# EAGLE library part ESP32-S2-MINI-2-N4R2 (library ESP32-S2-MINI-2-N4R2)
WiFi Modules - 802.11 SMD module, ESP32-S2FN4R2 ECO1 with 4 MB flash, 2 MB PSRAM , PCB antenna Source: Datasheet <https://www.espressif.com/sites/default/files/documentation/esp32-s2-mini-2_esp32-s2-mini-2u_datasheet_en.pdf>
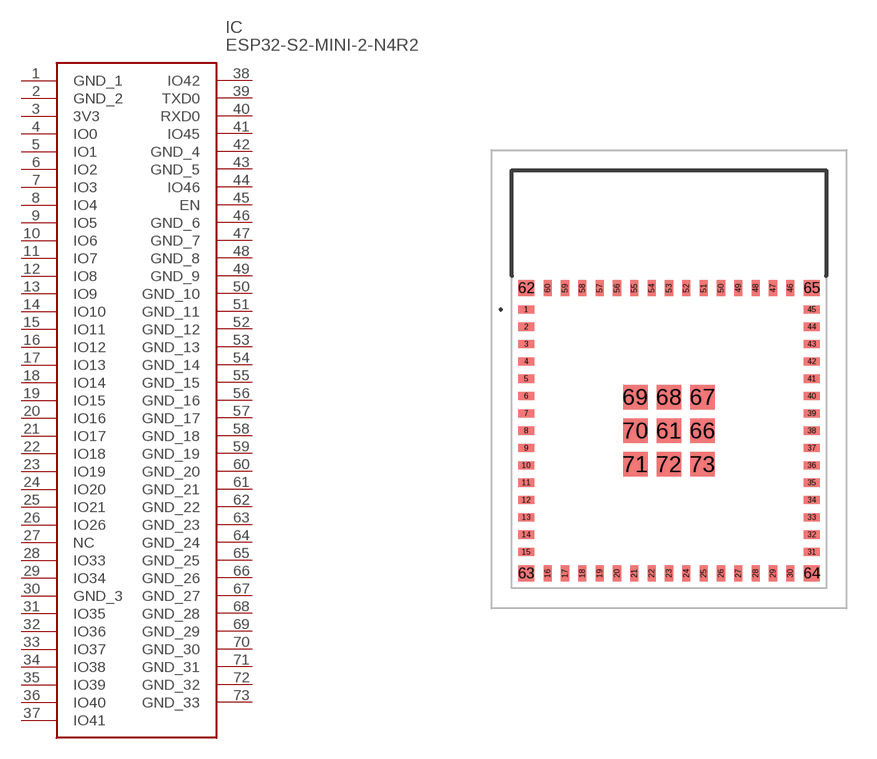
[diagram p0: symbol with the pads of ESP32S2MINI2N4R2; footprint ESP32S2MINI2N4R2]

Designator prefix IC

## ESP32-S2-MINI-2-N4R2 (Description: WiFi Modules - 802.11 SMD module, ESP32-S2FN4R2 ECO1 with 4 MB flash, 2 MB PSRAM , PCB antenna; Height: 2.55mm; Manufacturer_Name: Espressif Systems; Manufacturer_Part_Number: ESP32-S2-MINI-2-N4R2; Mouser_Part_Number: 356-ESP32MINI-2-N4R2; Mouser_Price-Stock: https://www.mouser.co.uk/ProductDetail/Espressif-Systems/ESP32-S2-MINI-2-N4R2?qs=vvQtp7zwQdMvxoWH1ueCWQ%3D%3D)  [ESP32S2MINI2N4R2]
1  GND_1
2  GND_2
3  3V3
4  IO0
5  IO1
6  IO2
7  IO3
8  IO4
9  IO5
10  IO6
11  IO7
12  IO8
13  IO9
14  IO10
15  IO11
16  IO12
17  IO13
18  IO14
19  IO15
20  IO16
21  IO17
22  IO18
23  IO19
24  IO20
25  IO21
26  IO26
27  NC  nc
28  IO33
29  IO34
30  GND_3
31  IO35
32  IO36
33  IO37
34  IO38
35  IO39
36  IO40
37  IO41
38  IO42
39  TXD0
40  RXD0
41  IO45
42  GND_4
43  GND_5
44  IO46
45  EN
46  GND_6
47  GND_7
48  GND_8
49  GND_9
50  GND_10
51  GND_11
52  GND_12
53  GND_13
54  GND_14
55  GND_15
56  GND_16
57  GND_17
58  GND_18
59  GND_19
60  GND_20
61  GND_21
62  GND_22
63  GND_23
64  GND_24
65  GND_25
66  GND_26
67  GND_27
68  GND_28
69  GND_29
70  GND_30
71  GND_31
72  GND_32
73  GND_33

## Footprint ESP32S2MINI2N4R2 (pad centres in mm)
56-SMD Module
smd 0.8 x 0.4: 1 -7,5.95; 2 -7,5.1; 3 -7,4.25; 4 -7,3.4; 5 -7,2.55; 6 -7,1.7; 7 -7,0.85; 8 -7,0; 9 -7,-0.85; 10 -7,-1.7; 11 -7,-2.55; 12 -7,-3.4; 13 -7,-4.25; 14 -7,-5.1; 15 -7,-5.95; 31 7,-5.95; 32 7,-5.1; 33 7,-4.25; 34 7,-3.4; 35 7,-2.55; 36 7,-1.7; 37 7,-0.85; 38 7,0; 39 7,0.85; 40 7,1.7; 41 7,2.55; 42 7,3.4; 43 7,4.25; 44 7,5.1; 45 7,5.95
smd 0.4 x 0.8: 16 -5.95,-7; 17 -5.1,-7; 18 -4.25,-7; 19 -3.4,-7; 20 -2.55,-7; 21 -1.7,-7; 22 -0.85,-7; 23 0,-7; 24 0.85,-7; 25 1.7,-7; 26 2.55,-7; 27 3.4,-7; 28 4.25,-7; 29 5.1,-7; 30 5.95,-7; 46 5.95,7; 47 5.1,7; 48 4.25,7; 49 3.4,7; 50 2.55,7; 51 1.7,7; 52 0.85,7; 53 0,7; 54 -0.85,7; 55 -1.7,7; 56 -2.55,7; 57 -3.4,7; 58 -4.25,7; 59 -5.1,7; 60 -5.95,7
smd 1.2 x 1.2: 61 0,0; 66 1.65,0; 67 1.65,1.65; 68 0,1.65; 69 -1.65,1.65; 70 -1.65,0; 71 -1.65,-1.65; 72 0,-1.65; 73 1.65,-1.65
smd 0.8 x 0.8: 62 -7,7; 63 -7,-7; 64 7,-7; 65 7,7